# Altium schematic symbol library 变压器.SchLib: 3 symbols
Pins are listed as number, name and electrical type; pins without a type are passive.

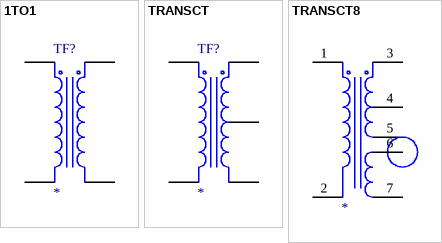
[diagram p0: symbols 1TO1 to TRANSCT8]

## 1TO1
designator TF?
Transformer
simulation model 1TO1 (SUBCKT)
pins: 1 Pri+, 2 Pri-, 3 Sec+, 4 Sec-

## TRANSCT
designator TF?
Center-Tapped Transformer
simulation model TRANSCT (SUBCKT)
pins: 1 Pri+, 2 Pri-, 3 Sec+, 4 SecCT, 5 Sec-

## TRANSCT8
designator ?
pins: 1 Pri+, 2 Pri-, 3 Sec+, 4 SecCT, 5 Sec-, 6 sec+, 7 sec-